# EAGLE library part ACS704 (library allegro)
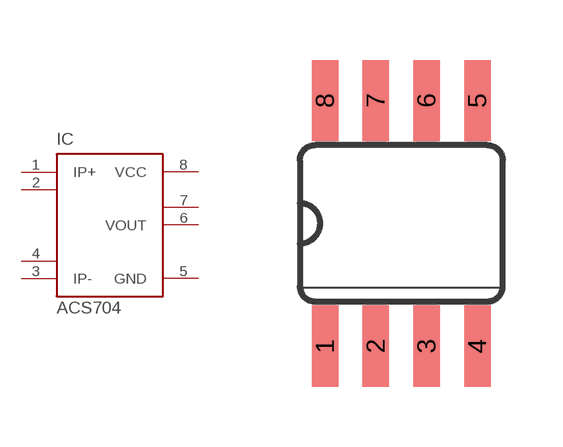
[diagram p18: symbol with the pads of SO08; footprint SO08]

Designator prefix IC

## ACS704ELC-005  [SO08]
1  IP+  pas
2  IP+2  pas
3  IP-  pas
4  IP-2  pas
5  GND  pwr
6  VOUT  out
7  VOUT2  out
8  VCC  pwr

## ACS704ELC-015  [SO08]
Pads as for SO08

## Footprint SO08 (pad centres in mm)
smd 0.66 x 2.032: 1 -1.905,-3.073; 2 -0.635,-3.073; 3 0.635,-3.073; 4 1.905,-3.073; 5 1.905,3.073; 6 0.635,3.073; 7 -0.635,3.073; 8 -1.905,3.073